# Altium schematic symbol library ANT-STD-GSM.SchLib: 1 symbol
Pins are listed as number, name and electrical type; pins without a type are passive.

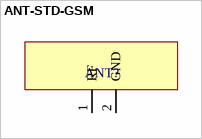
[diagram p0: symbol ANT-STD-GSM]

## ANT-STD-GSM
designator ANT?  (value not drawn)
pins: 1 RF, 2 GND